# EAGLE library part JOYSTICK (library PPMK_MSP430FR6989)
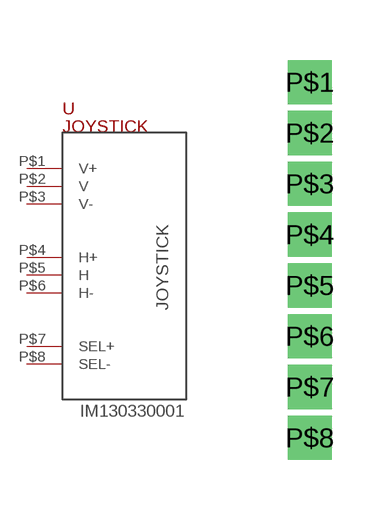
[diagram p1: symbol with the pads of JOYSTICK; footprint JOYSTICK]

Designator prefix -

## JOYSTICK  [JOYSTICK]
P$1  V+
P$2  V
P$3  V-
P$4  H+
P$5  H
P$6  H-
P$7  SEL+
P$8  SEL-

## Footprint JOYSTICK (pad centres in mm)
drill 0.6 square: P$1 -6.35,3.81; P$2 -6.35,2.54; P$3 -6.35,1.27; P$4 -6.35,0; P$5 -6.35,-1.27; P$6 -6.35,-2.54; P$7 -6.35,-3.81; P$8 -6.35,-5.08